# Altium schematic symbol library renesas new.SchLib: 10 symbols
Pins are listed as number, name and electrical type; pins without a type are passive.

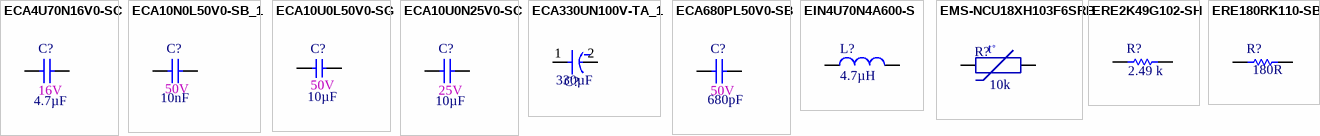
[diagram p0: symbols ECA4U70N16V0-SC to ERE180RK110-SB]

## ECA4U70N16V0-SC
designator C?, comment value 4.7µF  1st Auxiliary Field: 16V  (hidden comment: CAP CER 4.7UF 16V X5R 0603)
Manufacturer Part Number: GRT188R61C475ME13D; Manufacturer: Murata Electronics; Internal Part Number: ECA4U70N16V0-SC; Vendor Part Number: 490-12320-1-ND; 3rd Auxiliary Field: ROHS3 Compliant; 4th Auxiliary Field: AEC-Q200; Vendor Name: DigiKey; Component Height (mm): 0.90mm; 2nd Auxiliary Field: ±20%; Temp Co: X5R; Part type: CAP CER 4.7UF 16V X5R 0603
footprint SMDC0603 (Footprint not found)
pins: 1, 2

## ECA10N0L50V0-SB_1
designator C?, comment value 10nF  1st Auxiliary Field: 50V  (hidden comment: CAP CER 10000PF 50V X7R 0402)
Manufacturer Part Number: GCM155R71H103KA55D; Manufacturer: Murata Electronics; Internal Part Number: ECA10N0L50V0-SB_1; Vendor Part Number: 490-4762-1-ND; 3rd Auxiliary Field: ROHS3 Compliant; Component Height (mm): 0.55mm; 4th Auxiliary Field: AEC-Q200; Vendor Name: Digi-Key; 2nd Auxiliary Field: ±10%; Part Type: CAP CER 10000PF 50V X7R 0402; Temp Co: X7R
footprint SMDC0402
pins: 1, 2

## ECA10U0L50V0-SG
designator C?, comment value 10µF  1st Auxiliary Field: 50V  (hidden comment: CAP CER 10UF 50V X5R 1206)
Manufacturer: Murata Electronics; Manufacturer Part Number: GRT31CR61H106KE01L; Internal Part Number: ECA10U0L50V0-SG; Vendor Part Number: 490-12456-1-ND; 3rd Auxiliary Field: RoHS Compliant; Component Height (mm): 1.80mm; 4th Auxiliary Field: AEC-Q200; Vendor Name: Digi-Key; 2nd Auxiliary Field: ±10%; Temp Co: X5R; Part Type: CAP CER 10UF 50V X5R 1206
footprint SMDC1206 (Footprint not found)
pins: 1, 2

## ECA10U0N25V0-SC
designator C?, comment value 10µF  1st Auxiliary Field: 25V  (hidden comment: CAP CER 10UF 25V X5R 0603)
Manufacturer Part Number: GRT188R61E106ME13D; Manufacturer: Murata Electronics; Internal Part Number: ECA10U0N25V0-SC; Vendor Part Number: 490-12323-1-ND; 3rd Auxiliary Field: RoHS Compliant; 4th Auxiliary Field: AEC-Q200; Vendor Name: DigiKey; Component Height (mm): 0.90mm; 2nd Auxiliary Field: ±20%; Temp Co: X5R; Part type: CAP CER 10UF 25V X5R 0603
footprint SMDC0603 (Footprint not found)
pins: 1, 2

## ECA330UN100V-TA_1
designator C?, comment value 330µF  (hidden comment: CAP ALUM 330UF 20% 100V RADIAL)
Manufacturer Part Number: ELXV101ELL331ML30S; Manufacturer: United Chemi-Con; Internal Part Number: ECA330UN100V-TA_1; Vendor Part Number: 565-4823-ND; 3rd Auxiliary Field: RoHS2 Compliant; Component Height (mm): 31.50mm; Temp Co: -55°C ~ 105°C; 4th Auxiliary Field: AEC-Q200; Vendor Name: Digi-Key; Part Type: CAP ALUM 330UF 20% 100V RADIAL; 1st Auxiliary Field: 100V; 2nd Auxiliary Field: ±20%
footprint CAPPR750W8D1600H3150B
pins: 1 +VE, 2 -VE

## ECA680PL50V0-SB
designator C?, comment value 680pF  1st Auxiliary Field: 50V  (hidden comment: CAP CER 680PF 50V X7R 0402)
Manufacturer Part Number: GCM155R71H681KA37D; Manufacturer: Murata Electronics; Internal Part Number: ECA680PL50V0-SB; Vendor Part Number: 490-11151-1-ND; 3rd Auxiliary Field: ROHS3 Compliant; Component Height (mm): 0.55mm; 4th Auxiliary Field: AEC-Q200; Vendor Name: Digi-Key; 2nd Auxiliary Field: ±10%; Part Type: CAP CER 680PF 50V X7R 0402; Temp Co: X7R
footprint SMDC0402
pins: 1, 2

## EIN4U70N4A600-S
designator L?, comment value 4.7µH  (hidden comment: FIXED IND 4.7UH 4.6A 53 MOHM SMD)
Manufacturer: Pulse Electronics Power; Vendor Part Number: 553-2990-1-ND; Manufacturer Part Number: PA4340.472NLT; Internal Part Number: EIN4U70N4A600-S; Vendor Name: Digi-Key; 3rd Auxiliary Field: RoHS Compliant; 4th Auxiliary Field: AEC-Q200; Component Height (mm): 3.00mm; Temp Co: -40°C ~ 125°C; 2nd Auxiliary Field: ±20%; Part Type: FIXED IND 4.7UH 4.6A 53 MOHM SMD; 1st Auxiliary Field: 4.6A
footprint INDM600X540X300
pins: 1, 2

## EMS-NCU18XH103F6SRB
designator R?, comment value 10k  (hidden comment: THERMISTOR NTC 10KOHM 3380K 0603)
Manufacturer: Murata Electronics; Vendor Part Number: 490-18139-1-ND; Manufacturer Part Number: NCU18XH103F6SRB; Internal Part Number: EMS-NCU18XH103F6SRB; Vendor Name: Digi-Key; 3rd Auxiliary Field: RoHS Compliant; Temp Co: -40°C ~ 125°C; 2nd Auxiliary Field: ±1%; 1st Auxiliary Field: 100mW; Part Type: THERMISTOR NTC 10KOHM 3380K 0603; 4th Auxiliary Field: *; Component Height (mm): *
footprint SMDR0603
pins: 1, 2
text: o; t

## ERE2K49G102-SH
designator R?, comment value 2.49 k  (hidden comment: RES SMD 2.49K OHM 1% 1/2W 1210)
Manufacturer: Panasonic Electronic Components; Vendor Part Number: P2.49KAACT-ND; Manufacturer Part Number: ERJ-14NF2491U; Internal Part Number: ERE2K49G102-SH; Vendor Name: Digi-Key; 3rd Auxiliary Field: RoHS Compliant; 4th Auxiliary Field: Automotive AEC-Q200; Component Height (mm): 0.70mm; Temp Co: ±100ppm/°C; 1st Auxiliary Field: 0.5W, 1/2W; Part Type: RES SMD 2.49K OHM 1% 1/2W 1210; 2nd Auxiliary Field: ±1%
footprint SMDR1210 (Footprint not found)
pins: 1, 2

## ERE180RK110-SB
designator R?, comment value 180R  (hidden comment: RES SMD 180 OHM 5% 1/10W 0402)
Manufacturer: Panasonic Electronic Components; Internal Part Number: ERE180RK110-SB; Manufacturer Part Number: ERJ-2GEJ181X; Vendor Part Number: P180JCT-ND; Component Height (mm): 0.40mm; 3rd Auxiliary Field: ROHS3 Compliant; Vendor Name: Digi-Key; 4th Auxiliary Field: Automotive AEC-Q200; Temp Co: ±200ppm/°C; 1st Auxiliary Field: 0.1W; Part Type: RES SMD 180 OHM 5% 1/10W 0402; 2nd Auxiliary Field: ±5%
footprint SMDR0402 (Footprint not found)
pins: 1, 2